# EAGLE library part DUE(BOTTOMONLY) (library DUElib130425)
2.54mm smd header for Arduino Due shield
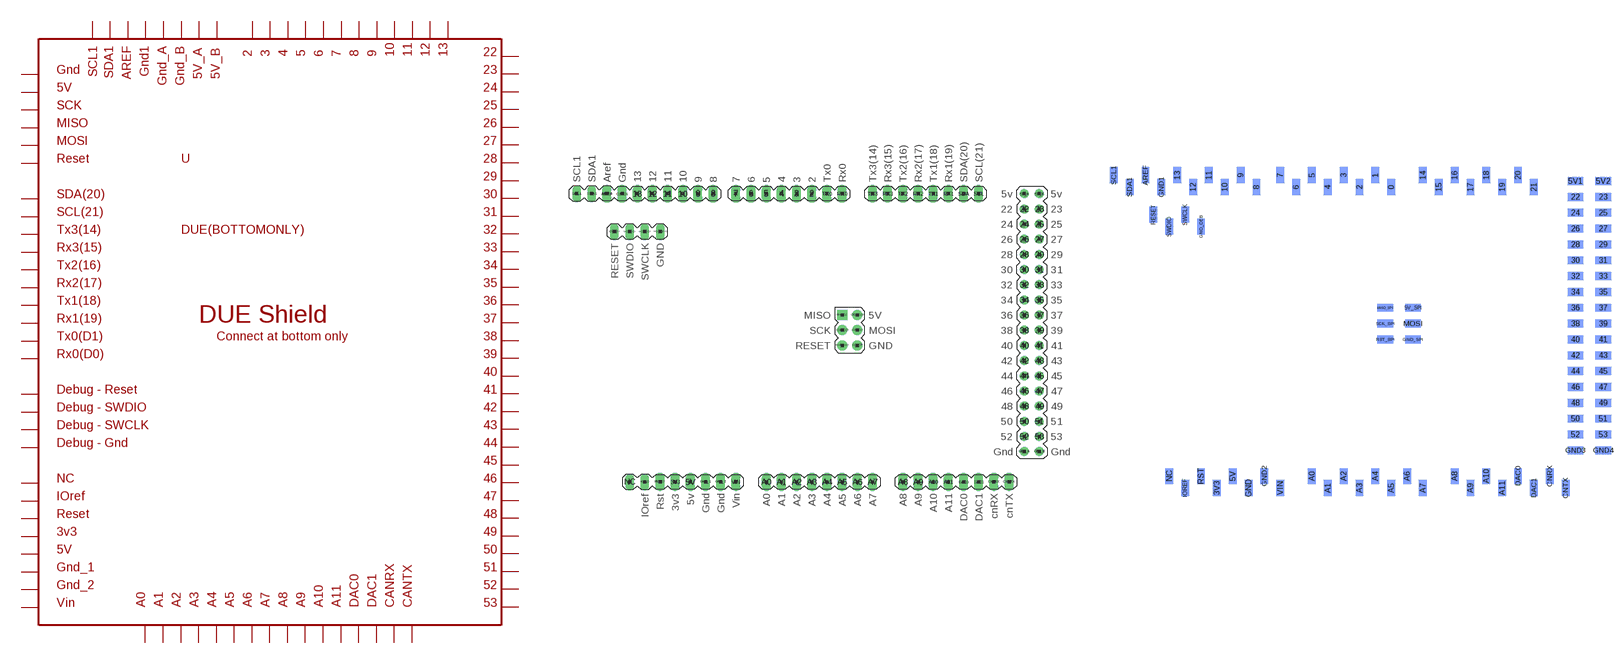
[diagram p1: symbol with the pads of DUE(BOTTOMONLY); footprints DUE(BOTTOMONLY), DUE_SMD]

Designator prefix -

## DUE(BOTTOMONLY)  [DUE(BOTTOMONLY)]
2  2
3  3
3V3  3V3
4  4
5  5
5V  5V
5V_A  5V_A
5V_B  5V_B
5V_ICSP  5V_ICSP
6  6
7  7
8  8
9  9
10  10
11  11
12  12
13  13
22  22
23  23
24  24
25  25
26  26
27  27
28  28
29  29
30  30
31  31
32  32
33  33
34  34
35  35
36  36
37  37
38  38
39  39
40  40
41  41
42  42
43  43
44  44
45  45
46  46
47  47
48  48
49  49
50  50
51  51
52  52
53  53
A0  A0
A1  A1
A2  A2
A3  A3
A4  A4
A5  A5
A6  A6
A7  A7
A8  A8
A9  A9
A10  A10
A11  A11
AREF  AREF
CANRX  CANRX
CANTX  CANTX
DAC0  DAC0
DAC1  DAC1
GND1  GND1
GND_1  GND_1
GND_2  GND_2
GND_A  GND_A
GND_B  GND_B
GND_DEBUG  GND_DEBUG
GND_ICSP  GND_ICSP
IOREF  IOREF
MISO_ICSP  MISO_ICSP
MOSI_ICSP  MOSI_ICSP
NC  NC
RESET  RESET
RESET_DEBUG  RESET_DEBUG
RESET_ICSP  RESET_ICSP
RX0  RX0
RX1  RX1
RX2  RX2
RX3  RX3
SCK_ICSP  SCK_ICSP
SCL  SCL
SCL1  SCL1
SDA  SDA
SDA1  SDA1
SWCLK_DEBUG  SWCLK_DEBUG
SWDIO_DEBUG  SWDIO_DEBUG
TX0  TX0
TX1  TX1
TX2  TX2
TX3  TX3
VIN  VIN

## DUE(BOTTOMONLY)BOTTOM_SMD  [DUE_SMD]
0  RX0
1  TX0
2  2
3  3
3V3  3V3
4  4
5  5
5V  5V
5V1  5V_A
5V2  5V_B
5V_SPI  5V_ICSP
6  6
7  7
8  8
9  9
10  10
11  11
12  12
13  13
14  TX3
15  RX3
16  TX2
17  RX2
18  TX1
19  RX1
20  SDA
21  SCL
22  22
23  23
24  24
25  25
26  26
27  27
28  28
29  29
30  30
31  31
32  32
33  33
34  34
35  35
36  36
37  37
38  38
39  39
40  40
41  41
42  42
43  43
44  44
45  45
46  46
47  47
48  48
49  49
50  50
51  51
52  52
53  53
A0  A0
A1  A1
A2  A2
A3  A3
A4  A4
A5  A5
A6  A6
A7  A7
A8  A8
A9  A9
A10  A10
A11  A11
AREF  AREF
CNRX  CANRX
CNTX  CANTX
DAC0  DAC0
DAC1  DAC1
GND  GND1
GND1  GND_1
GND2  GND_2
GND3  GND_A
GND4  GND_B
GND_DEB  GND_DEBUG
GND_SPI  GND_ICSP
IOREF  IOREF
MISO_SPI  MISO_ICSP
MOSI  MOSI_ICSP
NC  NC
RESET  RESET
RST  RESET_DEBUG
RST_SPI  RESET_ICSP
SCK_SPI  SCK_ICSP
SCL1  SCL1
SDA1  SDA1
SWCLK  SWCLK_DEBUG
SWDIO  SWDIO_DEBUG
VIN  VIN

## DUE(BOTTOMONLY)NODEB  [DUE_SMD_NODEB]
Pads as for DUE_SMD

## Footprint DUE(BOTTOMONLY) (pad centres in mm)
drill 1 long: 2 -16.51,30.48; 3 -19.05,30.48; 3V3 -39.37,-17.78; 4 -21.59,30.48; 5 -24.13,30.48; 5V -36.83,-17.78; 6 -26.67,30.48; 7 -29.21,30.48; 8 -33.02,30.48; 9 -35.56,30.48; 10 -38.1,30.48; 11 -40.64,30.48; 12 -43.18,30.48; 13 -45.72,30.48; A0 -24.13,-17.78; A1 -21.59,-17.78; A2 -19.05,-17.78; A3 -16.51,-17.78; A4 -13.97,-17.78; A5 -11.43,-17.78; A6 -8.89,-17.78; A7 -6.35,-17.78; A8 -1.27,-17.78; A9 1.27,-17.78; A10 3.81,-17.78; A11 6.35,-17.78; AREF -50.8,30.48; AREF1 -50.8,30.48; CANRX 13.97,-17.78; CANTX 16.51,-17.78; DAC0 8.89,-17.78; DAC1 11.43,-17.78; GND1 -48.26,30.48; GND_1 -34.29,-17.78; GND_2 -31.75,-17.78; RESET -41.91,-17.78; RX0 -11.43,30.48; RX1 6.35,30.48; RX2 1.27,30.48; RX3 -3.81,30.48; SCL 11.43,30.48; SDA 8.89,30.48; TX0 -13.97,30.48; TX1 3.81,30.48; TX2 -1.27,30.48; TX3 -6.35,30.48; VIN -29.21,-17.78
drill 1: 5V_A 19.05,30.48; 5V_B 21.59,30.48; 22 19.05,27.94; 23 21.59,27.94; 24 19.05,25.4; 25 21.59,25.4; 26 19.05,22.86; 27 21.59,22.86; 28 19.05,20.32; 29 21.59,20.32; 30 19.05,17.78; 31 21.59,17.78; 32 19.05,15.24; 33 21.59,15.24; 34 19.05,12.7; 35 21.59,12.7; 36 19.05,10.16; 37 21.59,10.16; 38 19.05,7.62; 39 21.59,7.62; 40 19.05,5.08; 41 21.59,5.08; 42 19.05,2.54; 43 21.59,2.54; 44 19.05,0; 45 21.59,0; 46 19.05,-2.54; 47 21.59,-2.54; 48 19.05,-5.08; 49 21.59,-5.08; 50 19.05,-7.62; 51 21.59,-7.62; 52 19.05,-10.16; 53 21.59,-10.16; GND_A 19.05,-12.7; GND_B 21.59,-12.7
drill 0.7 pad 1.676: 5V_ICSP -8.89,5.08; GND_ICSP -8.89,10.16; MOSI_ICSP -8.89,7.62; RESET_ICSP -11.43,5.08; SCK_ICSP -11.43,7.62
drill 0.8 pad 1.422 long: GND_DEBUG -41.91,24.13; IOREF -44.45,-17.78; NC -46.99,-17.78; RESET_DEBUG -49.53,24.13; SCL1 -55.88,30.48; SDA1 -53.34,30.48; SWCLK_DEBUG -44.45,24.13; SWDIO_DEBUG -46.99,24.13
drill 0.7 pad 1.676 square: MISO_ICSP -11.43,10.16

## Footprint DUE_SMD (pad centres in mm)
smd 1.27 x 2.54 bottom: 0 10.16,21.907; 1 7.62,23.812; 2 5.08,21.907; 3 2.54,23.812; 3V3 -17.78,-26.352; 4 0,21.907; 5 -2.54,23.812; 5V -15.24,-24.448; 6 -5.08,21.907; 7 -7.62,23.812; 8 -11.43,21.907; 9 -13.97,23.812; 10 -16.51,21.907; 11 -19.05,23.812; 12 -21.59,21.907; 13 -24.13,23.812; 14 15.24,23.812; 15 17.78,21.907; 16 20.32,23.812; 17 22.86,21.907; 18 25.4,23.812; 19 27.94,21.907; 20 30.48,23.812; 21 33.02,21.907; A0 -2.54,-24.448; A1 0,-26.352; A2 2.54,-24.448; A3 5.08,-26.352; A4 7.62,-24.448; A5 10.16,-26.352; A6 12.7,-24.448; A7 15.24,-26.352; A8 20.32,-24.448; A9 22.86,-26.352; A10 25.4,-24.448; A11 27.94,-26.352; AREF -29.21,23.812; CNRX 35.56,-24.448; CNTX 38.1,-26.352; DAC0 30.48,-24.448; DAC1 33.02,-26.352; GND -12.7,-26.352; GND1 -26.67,21.907; GND2 -10.16,-24.448; GND_DEB -20.32,15.557; IOREF -22.86,-26.352; NC -25.4,-24.448; RESET -27.94,17.462; RST -20.32,-24.448; SCL1 -34.29,23.812; SDA1 -31.75,21.907; SWCLK -22.86,17.462; SWDIO -25.4,15.557; VIN -7.62,-26.352
smd 2.54 x 1.27 bottom: 5V1 39.688,22.86; 5V2 44.133,22.86; 5V_SPI 13.652,2.54; 22 39.688,20.32; 23 44.133,20.32; 24 39.688,17.78; 25 44.133,17.78; 26 39.688,15.24; 27 44.133,15.24; 28 39.688,12.7; 29 44.133,12.7; 30 39.688,10.16; 31 44.133,10.16; 32 39.688,7.62; 33 44.133,7.62; 34 39.688,5.08; 35 44.133,5.08; 36 39.688,2.54; 37 44.133,2.54; 38 39.688,0; 39 44.133,0; 40 39.688,-2.54; 41 44.133,-2.54; 42 39.688,-5.08; 43 44.133,-5.08; 44 39.688,-7.62; 45 44.133,-7.62; 46 39.688,-10.16; 47 44.133,-10.16; 48 39.688,-12.7; 49 44.133,-12.7; 50 39.688,-15.24; 51 44.133,-15.24; 52 39.688,-17.78; 53 44.133,-17.78; GND3 39.688,-20.32; GND4 44.133,-20.32; GND_SPI 13.652,-2.54; MISO_SPI 9.207,2.54; MOSI 13.652,0; RST_SPI 9.207,-2.54; SCK_SPI 9.207,0

## Footprint DUE_SMD_NODEB (pad centres in mm)
smd 1.27 x 2.54 bottom: 0 12.7,21.907; 1 10.16,23.812; 2 7.62,21.907; 3 5.08,23.812; 3V3 -15.24,-26.352; 4 2.54,21.907; 5 0,23.812; 5V -12.7,-24.448; 6 -2.54,21.907; 7 -5.08,23.812; 8 -8.89,21.907; 9 -11.43,23.812; 10 -13.97,21.907; 11 -16.51,23.812; 12 -19.05,21.907; 13 -21.59,23.812; 14 17.78,23.812; 15 20.32,21.907; 16 22.86,23.812; 17 25.4,21.907; 18 27.94,23.812; 19 30.48,21.907; 20 33.02,23.812; 21 35.56,21.907; A0 0,-24.448; A1 2.54,-26.352; A2 5.08,-24.448; A3 7.62,-26.352; A4 10.16,-24.448; A5 12.7,-26.352; A6 15.24,-24.448; A7 17.78,-26.352; A8 22.86,-24.448; A9 25.4,-26.352; A10 27.94,-24.448; A11 30.48,-26.352; AREF -26.67,23.812; CNRX 38.1,-24.448; CNTX 40.64,-26.352; DAC0 33.02,-24.448; DAC1 35.56,-26.352; GND -10.16,-26.352; GND1 -24.13,21.907; GND2 -7.62,-24.448; GND_DEB -24.13,21.907; IOREF -20.32,-26.352; NC -22.86,-24.448; RESET -31.75,23.812; RST -17.78,-24.448; SCL1 -31.75,23.812; SDA1 -29.21,21.907; SWCLK -26.67,23.812; SWDIO -29.21,21.907; VIN -5.08,-26.352
smd 2.54 x 1.27 bottom: 5V1 42.227,22.86; 5V2 46.672,22.86; 5V_SPI 16.192,2.54; 22 42.227,20.32; 23 46.672,20.32; 24 42.227,17.78; 25 46.672,17.78; 26 42.227,15.24; 27 46.672,15.24; 28 42.227,12.7; 29 46.672,12.7; 30 42.227,10.16; 31 46.672,10.16; 32 42.227,7.62; 33 46.672,7.62; 34 42.227,5.08; 35 46.672,5.08; 36 42.227,2.54; 37 46.672,2.54; 38 42.227,0; 39 46.672,0; 40 42.227,-2.54; 41 46.672,-2.54; 42 42.227,-5.08; 43 46.672,-5.08; 44 42.227,-7.62; 45 46.672,-7.62; 46 42.227,-10.16; 47 46.672,-10.16; 48 42.227,-12.7; 49 46.672,-12.7; 50 42.227,-15.24; 51 46.672,-15.24; 52 42.227,-17.78; 53 46.672,-17.78; GND3 42.227,-20.32; GND4 46.672,-20.32; GND_SPI 16.192,-2.54; MISO_SPI 11.748,2.54; MOSI 16.192,0; RST_SPI 11.748,-2.54; SCK_SPI 11.748,0